# Altium footprint library WR-WTB_1.50mm.PcbLib: 27 footprints (part 1 of 2)
Each footprint in its own frame and in the unit in brackets; x right, y up, seen from the top. Pads: shape width x height; smd on the part's side, far side on the other; paste and mask are expansions set on the pad; w line width, h text height; cw(c..) or ccw(c..) is an arc to the next point about the centre after c.
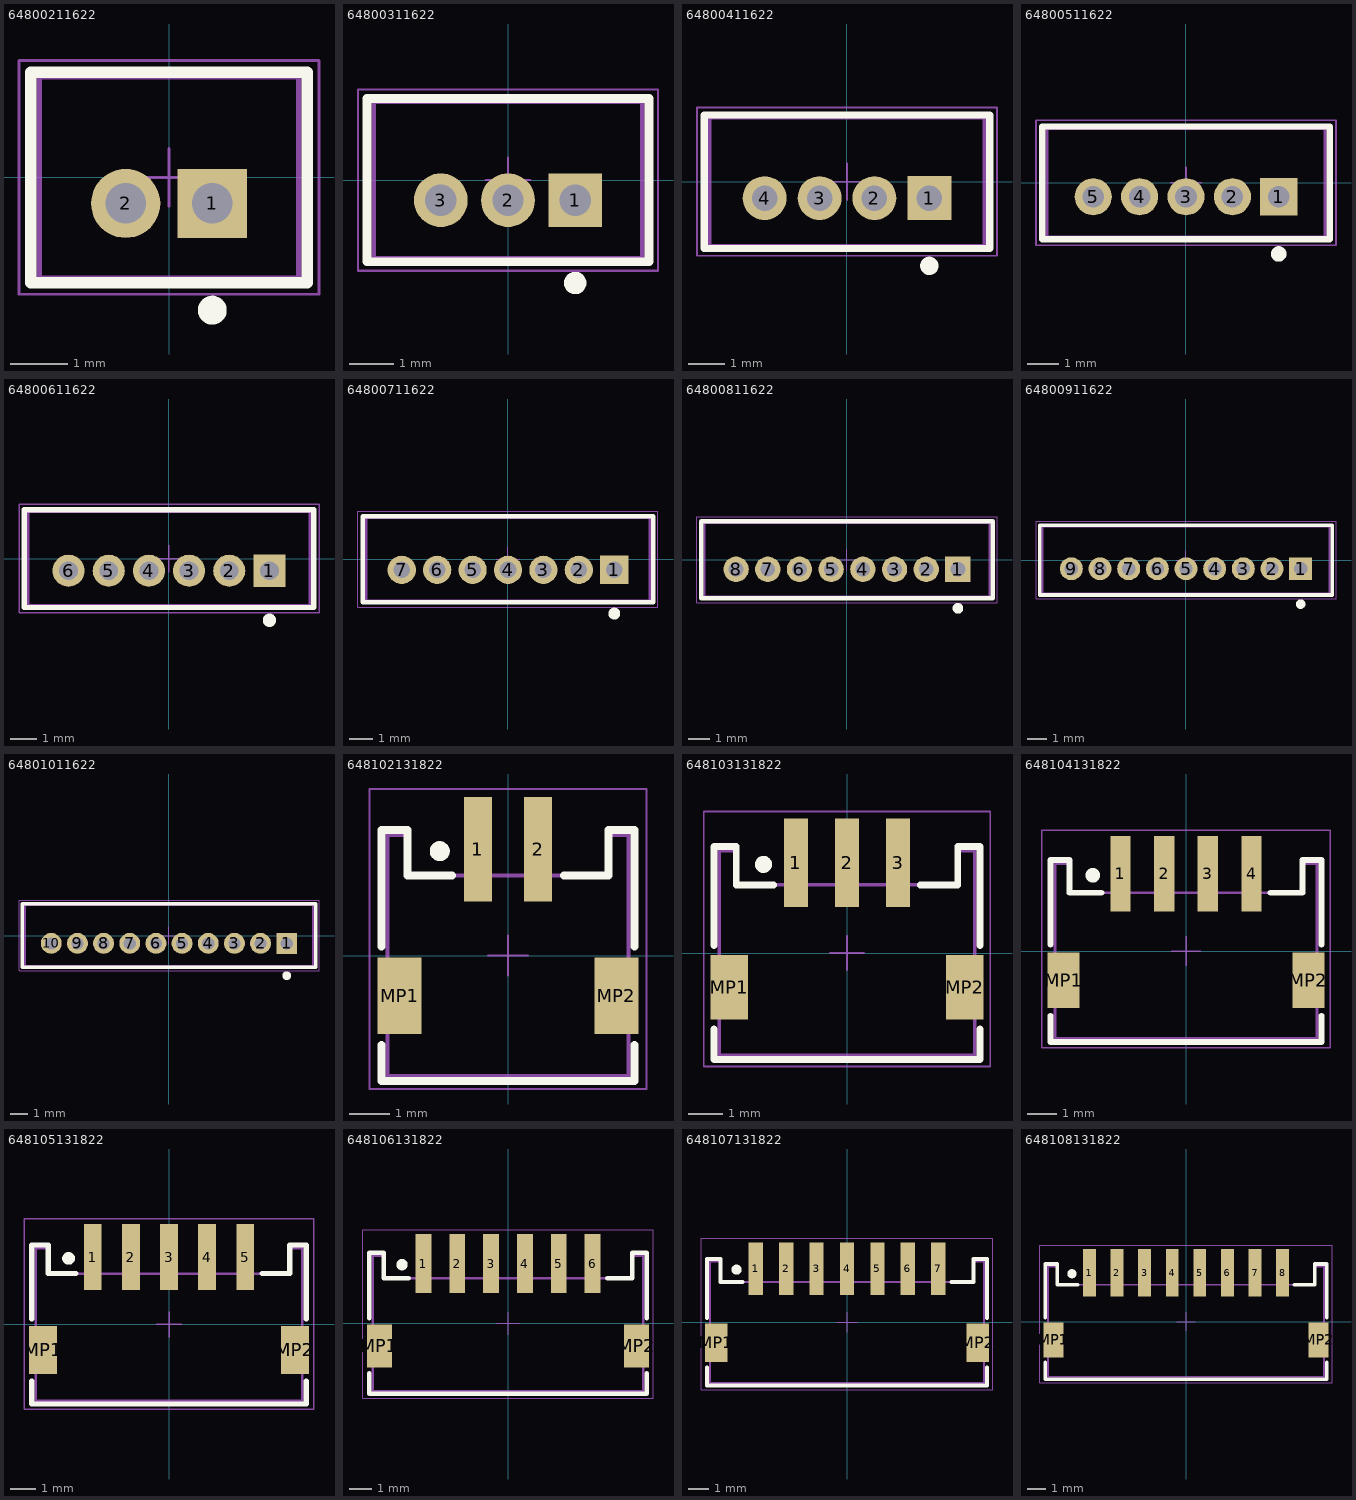
[diagram p0: the footprints below, top view; thin cyan lines are the x and y axes]

## 64800211622 [mm] "1.50mm Male Vertical Shrouded Header, 2p"
height 4.5
pads (2):
  rect 1.2x1.2 hole 0.7: 1(0.75,-0.45)
  round 1.2 hole 0.7: 2(-0.75,-0.45)
Top Overlay:
  circle w0.25: c0.75,-2.3 r0.125
  lines w0.2: -2.4,-1.825 2.4,-1.825 2.4,1.825 -2.4,1.825 -2.4,-1.825
Mechanical 13:
  lines w0.1: -2.25,-1.75 -2.25,1.75 2.25,1.75 2.25,-1.75 -2.25,-1.75
Mechanical 15:
  lines w0.05: -0.5,0 0.5,0 ; 0,-0.5 0,0.5 ; -2.6,-2.025 -2.6,2.025 2.6,2.025 2.6,-2.025 -2.6,-2.025
3D body "64800211622.stp": height 4.53, standoff -2.37, extent -2.25,-1.75 2.25,1.75

## 64800311622 [mm] "1.50mm Male Vertical Shrouded Header, 3p"
height 4.5
pads (3):
  rect 1.2x1.2 hole 0.7: 1(1.5,-0.45)
  round 1.2 hole 0.7: 2(0,-0.45) 3(-1.5,-0.45)
Top Overlay:
  circle w0.25: c1.5,-2.3 r0.125
  lines w0.2: -3.15,-1.825 -3.15,1.825 3.15,1.825 3.15,-1.825 -3.15,-1.825
Mechanical 13:
  lines w0.1: -3,-1.75 3,-1.75 3,1.75 -3,1.75 -3,-1.75
Mechanical 15:
  lines w0.05: -0.5,0 0.5,0 ; 0,-0.5 0,0.5 ; -3.35,-2.025 3.35,-2.025 3.35,2.025 -3.35,2.025 -3.35,-2.025
3D body "64800311622.stp": height 4.53, standoff -2.37, extent -3,-1.75 3,1.75

## 64800411622 [mm] "1.50mm Male Vertical Shrouded Header, 4p"
height 4.5
pads (4):
  rect 1.2x1.2 hole 0.7: 1(2.25,-0.45)
  round 1.2 hole 0.7: 2(0.75,-0.45) 3(-0.75,-0.45) 4(-2.25,-0.45)
Top Overlay:
  circle w0.25: c2.25,-2.3 r0.125
  lines w0.2: -3.9,-1.825 3.9,-1.825 3.9,1.825 -3.9,1.825 -3.9,-1.825
Mechanical 13:
  lines w0.1: -3.75,-1.75 -3.75,1.75 3.75,1.75 3.75,-1.75 -3.75,-1.75
Mechanical 15:
  lines w0.05: -0.5,0 0.5,0 ; 0,-0.5 0,0.5 ; -4.1,-2.025 -4.1,2.025 4.1,2.025 4.1,-2.025 -4.1,-2.025
3D body "64800411622.stp": height 4.53, standoff -2.37, extent -3.75,-1.75 3.75,1.75

## 64800511622 [mm] "1.50mm Male Vertical Shrouded Header, 5p"
height 4.5
pads (5):
  rect 1.2x1.2 hole 0.7: 1(3,-0.45)
  round 1.2 hole 0.7: 2(1.5,-0.45) 3(0,-0.45) 4(-1.5,-0.45) 5(-3,-0.45)
Top Overlay:
  circle w0.25: c3,-2.3 r0.125
  lines w0.2: -4.65,-1.825 4.65,-1.825 4.65,1.825 -4.65,1.825 -4.65,-1.825
Mechanical 13:
  lines w0.1: -4.5,-1.75 -4.5,1.75 4.5,1.75 4.5,-1.75 -4.5,-1.75
Mechanical 15:
  lines w0.05: -0.5,0 0.5,0 ; 0,-0.5 0,0.5 ; -4.85,-2.025 -4.85,2.025 4.85,2.025 4.85,-2.025 -4.85,-2.025
3D body "64800511622.stp": height 4.53, standoff -2.67, extent -4.5,-1.75 4.5,1.75

## 64800611622 [mm] "1.50mm Male Vertical Shrouded Header, 6p"
height 4.5
pads (6):
  rect 1.2x1.2 hole 0.7: 1(3.75,-0.45)
  round 1.2 hole 0.7: 2(2.25,-0.45) 3(0.75,-0.45) 4(-0.75,-0.45) 5(-2.25,-0.45) 6(-3.75,-0.45)
Top Overlay:
  circle w0.25: c3.75,-2.3 r0.125
  lines w0.2: -5.4,-1.825 -5.4,1.825 5.4,1.825 5.4,-1.825 -5.4,-1.825
Mechanical 13:
  lines w0.1: -5.25,-1.75 5.25,-1.75 5.25,1.75 -5.25,1.75 -5.25,-1.75
Mechanical 15:
  lines w0.05: -0.5,0 0.5,0 ; 0,-0.5 0,0.5 ; -5.6,-2.025 5.6,-2.025 5.6,2.025 -5.6,2.025 -5.6,-2.025
3D body "64800611622.stp": height 4.53, standoff -2.67, extent -5.25,-1.75 5.25,1.75

## 64800711622 [mm] "1.50mm Male Vertical Shrouded Header, 7p"
height 4.5
pads (7):
  rect 1.2x1.2 hole 0.7: 1(4.5,-0.45)
  round 1.2 hole 0.7: 2(3,-0.45) 3(1.5,-0.45) 4(0,-0.45) 5(-1.5,-0.45) 6(-3,-0.45) 7(-4.5,-0.45)
Top Overlay:
  circle w0.25: c4.5,-2.3 r0.125
  lines w0.2: -6.15,-1.825 -6.15,1.825 6.15,1.825 6.15,-1.825 -6.15,-1.825
Mechanical 13:
  lines w0.1: -6,-1.75 6,-1.75 6,1.75 -6,1.75 -6,-1.75
Mechanical 15:
  lines w0.05: -0.5,0 0.5,0 ; 0,-0.5 0,0.5 ; -6.35,-2.025 6.35,-2.025 6.35,2.025 -6.35,2.025 -6.35,-2.025
3D body "64800711622.stp": height 4.53, standoff -2.67, extent -6,-1.75 6,1.75

## 64800811622 [mm] "1.50mm Male Vertical Shrouded Header, 8p"
height 4.5
pads (8):
  rect 1.2x1.2 hole 0.7: 1(5.25,-0.45)
  round 1.2 hole 0.7: 2(3.75,-0.45) 3(2.25,-0.45) 4(0.75,-0.45) 5(-0.75,-0.45) 6(-2.25,-0.45) 7(-3.75,-0.45) 8(-5.25,-0.45)
Top Overlay:
  circle w0.25: c5.25,-2.3 r0.125
  lines w0.2: -6.9,-1.825 6.9,-1.825 6.9,1.825 -6.9,1.825 -6.9,-1.825
Mechanical 13:
  lines w0.1: -6.75,-1.75 -6.75,1.75 6.75,1.75 6.75,-1.75 -6.75,-1.75
Mechanical 15:
  lines w0.05: -0.5,0 0.5,0 ; 0,-0.5 0,0.5 ; -7.1,-2.025 -7.1,2.025 7.1,2.025 7.1,-2.025 -7.1,-2.025
3D body "64800811622.stp": height 4.53, standoff -2.67, extent -6.75,-1.75 6.75,1.75

## 64800911622 [mm] "1.50mm Male Vertical Shrouded Header, 9p"
height 4.5
pads (9):
  rect 1.2x1.2 hole 0.7: 1(6,-0.45)
  round 1.2 hole 0.7: 2(4.5,-0.45) 3(3,-0.45) 4(1.5,-0.45) 5(0,-0.45) 6(-1.5,-0.45) 7(-3,-0.45) 8(-4.5,-0.45) 9(-6,-0.45)
Top Overlay:
  circle w0.25: c6,-2.3 r0.125
  lines w0.2: -7.65,-1.825 7.65,-1.825 7.65,1.825 -7.65,1.825 -7.65,-1.825
Mechanical 13:
  lines w0.1: -7.5,-1.75 -7.5,1.75 7.5,1.75 7.5,-1.75 -7.5,-1.75
Mechanical 15:
  lines w0.05: -0.5,0 0.5,0 ; 0,-0.5 0,0.5 ; -7.85,-2.025 -7.85,2.025 7.85,2.025 7.85,-2.025 -7.85,-2.025
3D body "64800911622.stp": height 4.53, standoff -2.67, extent -7.5,-1.75 7.5,1.75

## 64801011622 [mm] "1.50mm Male Vertical Shrouded Header, 10p"
height 4.5
pads (10):
  rect 1.2x1.2 hole 0.7: 1(6.75,-0.45)
  round 1.2 hole 0.7: 2(5.25,-0.45) 3(3.75,-0.45) 4(2.25,-0.45) 5(0.75,-0.45) 6(-0.75,-0.45) 7(-2.25,-0.45) 8(-3.75,-0.45) 9(-5.25,-0.45) 10(-6.75,-0.45)
Top Overlay:
  circle w0.25: c6.75,-2.3 r0.125
  lines w0.2: -8.4,-1.825 -8.4,1.825 8.4,1.825 8.4,-1.825 -8.4,-1.825
Mechanical 13:
  lines w0.1: -8.25,-1.75 8.25,-1.75 8.25,1.75 -8.25,1.75 -8.25,-1.75
Mechanical 15:
  lines w0.05: -0.5,0 0.5,0 ; 0,-0.5 0,0.5 ; -8.6,-2.025 8.6,-2.025 8.6,2.025 -8.6,2.025 -8.6,-2.025
3D body "64801011622.stp": height 4.53, standoff -2.67, extent -8.25,-1.75 8.25,1.75

## 648102131822 [mm] "1.50mm SMT Male Horizontal Shrouded Header, 2p"
height 3.7
pads (4):
  rect 0.7x2.6 smd: 1(-0.75,2.65) 2(0.75,2.65)
  rect 1.1x1.9 smd: MP1(-2.7,-1) MP2(2.7,-1)
Top Overlay:
  circle w0.25: c-1.7,2.6 r0.125
  lines w0.2: -3.15,-2.225 -3.15,-3.125 3.15,-3.125 3.15,-2.225 ; -3.15,0.225 -3.15,3.125 -2.5,3.125 -2.5,2 -1.4,2 ; 1.4,2 2.5,2 2.5,3.125 3.15,3.125 3.15,0.225
Mechanical 13:
  lines w0.1: -3,-3 -3,3 -2.5,3 -2.5,2 2.5,2 2.5,3 3,3 3,-3 -3,-3
Mechanical 15:
  lines w0.05: -0.5,0 0.5,0 ; 0,-0.5 0,0.5 ; -3.45,-3.325 -3.45,4.15 3.45,4.15 3.45,-3.325 -3.45,-3.325
3D body "648102131822.stp": height 3.74, standoff -0.01, extent -3.105,-3 3.105,3.47

## 648103131822 [mm] "1.50mm SMT Male Horizontal Shrouded Header, 3p"
height 3.7
pads (5):
  rect 0.7x2.6 smd: 1(-1.5,2.65) 2(0,2.65) 3(1.5,2.65)
  rect 1.1x1.9 smd: MP1(-3.45,-1) MP2(3.45,-1)
Top Overlay:
  circle w0.25: c-2.45,2.6 r0.125
  lines w0.2: -3.9,-2.225 -3.9,-3.125 3.9,-3.125 3.9,-2.225 ; -3.9,0.225 -3.9,3.125 -3.25,3.125 -3.25,2 -2.15,2 ; 2.15,2 3.25,2 3.25,3.125 3.9,3.125 3.9,0.225
Mechanical 13:
  lines w0.1: -3.75,-3 -3.75,3 -3.25,3 -3.25,2 3.25,2 3.25,3 3.75,3 3.75,-3 -3.75,-3
Mechanical 15:
  lines w0.05: -0.5,0 0.5,0 ; 0,-0.5 0,0.5 ; -4.2,-3.325 -4.2,4.15 4.2,4.15 4.2,-3.325 -4.2,-3.325
3D body "648103131822.stp": height 3.74, standoff -0.01, extent -3.855,-3 3.855,3.47

## 648104131822 [mm] "1.50mm SMT Male Horizontal Shrouded Header, 4p"
height 3.7
pads (6):
  rect 0.7x2.6 smd: 1(-2.25,2.65) 2(-0.75,2.65) 3(0.75,2.65) 4(2.25,2.65)
  rect 1.1x1.9 smd: MP1(-4.2,-1) MP2(4.2,-1)
Top Overlay:
  circle w0.25: c-3.2,2.6 r0.125
  lines w0.2: -4.65,-2.225 -4.65,-3.125 4.65,-3.125 4.65,-2.225 ; -4.65,0.225 -4.65,3.125 -4,3.125 -4,2 -2.9,2 ; 2.9,2 4,2 4,3.125 4.65,3.125 4.65,0.225
Mechanical 13:
  lines w0.1: -4.5,-3 -4.5,3 -4,3 -4,2 4,2 4,3 4.5,3 4.5,-3 -4.5,-3
Mechanical 15:
  lines w0.05: -0.5,0 0.5,0 ; 0,-0.5 0,0.5 ; -4.95,-3.325 -4.95,4.15 4.95,4.15 4.95,-3.325 -4.95,-3.325
3D body "648104131822.stp": height 3.74, standoff -0.01, extent -4.605,-3 4.605,3.47

## 648105131822 [mm] "1.50mm SMT Male Horizontal Shrouded Header, 5p"
height 3.7
pads (7):
  rect 0.7x2.6 smd: 1(-3,2.65) 2(-1.5,2.65) 3(0,2.65) 4(1.5,2.65) 5(3,2.65)
  rect 1.1x1.9 smd: MP1(-4.95,-1) MP2(4.95,-1)
Top Overlay:
  circle w0.25: c-3.95,2.6 r0.125
  lines w0.2: -5.4,-2.225 -5.4,-3.125 5.4,-3.125 5.4,-2.225 ; -5.4,0.225 -5.4,3.125 -4.75,3.125 -4.75,2 -3.65,2 ; 3.65,2 4.75,2 4.75,3.125 5.4,3.125 5.4,0.225
Mechanical 13:
  lines w0.1: -5.25,-3 -5.25,3 -4.75,3 -4.75,2 4.75,2 4.75,3 5.25,3 5.25,-3 -5.25,-3
Mechanical 15:
  lines w0.05: -0.5,0 0.5,0 ; 0,-0.5 0,0.5 ; -5.7,-3.325 -5.7,4.15 5.7,4.15 5.7,-3.325 -5.7,-3.325
3D body "648105131822.stp": height 3.74, standoff -0.01, extent -5.355,-3 5.355,3.47

## 648106131822 [mm] "1.50mm SMT Male Horizontal Shrouded Header, 6p"
height 3.7
pads (8):
  rect 0.7x2.6 smd: 1(-3.75,2.65) 2(-2.25,2.65) 3(-0.75,2.65) 4(0.75,2.65) 5(2.25,2.65) 6(3.75,2.65)
  rect 1.1x1.9 smd: MP1(-5.7,-1) MP2(5.7,-1)
Top Overlay:
  circle w0.25: c-4.7,2.6 r0.125
  lines w0.2: -6.15,-2.225 -6.15,-3.125 6.15,-3.125 6.15,-2.225 ; -6.15,0.225 -6.15,3.125 -5.5,3.125 -5.5,2 -4.4,2 ; 4.4,2 5.5,2 5.5,3.125 6.15,3.125 6.15,0.225
Mechanical 13:
  lines w0.1: -6,-3 -6,3 -5.5,3 -5.5,2 5.5,2 5.5,3 6,3 6,-3 -6,-3
Mechanical 15:
  lines w0.05: -0.5,0 0.5,0 ; 0,-0.5 0,0.5 ; -6.45,-3.325 -6.45,4.15 6.45,4.15 6.45,-3.325 -6.45,-3.325
3D body "648106131822.stp": height 3.74, standoff -0.01, extent -6.105,-3 6.105,3.47

## 648107131822 [mm] "1.50mm SMT Male Horizontal Shrouded Header, 7p"
height 3.7
pads (9):
  rect 0.7x2.6 smd: 1(-4.5,2.65) 2(-3,2.65) 3(-1.5,2.65) 4(0,2.65) 5(1.5,2.65) 6(3,2.65) 7(4.5,2.65)
  rect 1.1x1.9 smd: MP1(-6.45,-1) MP2(6.45,-1)
Top Overlay:
  circle w0.25: c-5.45,2.6 r0.125
  lines w0.2: -6.9,-2.225 -6.9,-3.125 6.9,-3.125 6.9,-2.225 ; -6.9,0.225 -6.9,3.125 -6.25,3.125 -6.25,2 -5.15,2 ; 5.15,2 6.25,2 6.25,3.125 6.9,3.125 6.9,0.225
Mechanical 13:
  lines w0.1: -6.75,-3 6.75,-3 6.75,3 6.25,3 6.25,2 -6.25,2 -6.25,3 -6.75,3 -6.75,-3
Mechanical 15:
  lines w0.05: -0.5,0 0.5,0 ; 0,-0.5 0,0.5 ; -7.2,-3.325 7.2,-3.325 7.2,4.15 -7.2,4.15 -7.2,-3.325
3D body "648107131822.stp": height 3.74, standoff -0.01, extent -6.855,-3 6.855,3.47

## 648108131822 [mm] "1.50mm SMT Male Horizontal Shrouded Header, 8p"
height 3.7
pads (10):
  rect 0.7x2.6 smd: 1(-5.25,2.65) 2(-3.75,2.65) 3(-2.25,2.65) 4(-0.75,2.65) 5(0.75,2.65) 6(2.25,2.65) 7(3.75,2.65) 8(5.25,2.65)
  rect 1.1x1.9 smd: MP1(-7.2,-1) MP2(7.2,-1)
Top Overlay:
  circle w0.25: c-6.2,2.6 r0.125
  lines w0.2: -7.65,-2.225 -7.65,-3.125 7.65,-3.125 7.65,-2.225 ; -7.65,0.225 -7.65,3.125 -7,3.125 -7,2 -5.9,2 ; 5.9,2 7,2 7,3.125 7.65,3.125 7.65,0.225
Mechanical 13:
  lines w0.1: -7.5,-3 -7.5,3 -7,3 -7,2 7,2 7,3 7.5,3 7.5,-3 -7.5,-3
Mechanical 15:
  lines w0.05: -0.5,0 0.5,0 ; 0,-0.5 0,0.5 ; -7.95,-3.325 -7.95,4.15 7.95,4.15 7.95,-3.325 -7.95,-3.325
3D body "648108131822.stp": height 3.74, standoff -0.01, extent -7.605,-3 7.605,3.47